# EAGLE library part 6120XX235221_612026235221 (library Eagle_WR-BHD (rev21a))
WR-BHD 2.54 mm Male Angled Box Header High Temperature KIND PROPERTIES: Pitch 2.54 mm Gender:Male MATERIAL PROPERTIES: Insulator Material:PA6T Insulator Flammability Rating UL94 V-0 Insulator Color:Black Contact Material :Copper Alloy Contact Plating :Gold Contact Type: Stamped GENERAL INFORMATION: Operating Temperature:-40 °C up to +125 °C Compliance:RoHS Working Voltage: 250 V (AC) Withstanding Voltage:500 V (AC) Contact Resistance: 20 mΩ Insulation Resistance:1000 MΩ PACKAGING PROPERTIES Packaging :Tray <https://www.we-online.de/katalog/media/o32907v209%20Family_WR-BHD_6120xx235221.jpg> Details see: https://www.we-online.de/katalog/en/em/BHD_2_54_MALE_ANGLED_BOX_HEADER_HIGH_TEMPERATURE_6120XX235221 Updated by Yingchun,Shan 2019-10-30 2019 (C) Würth Elektronik
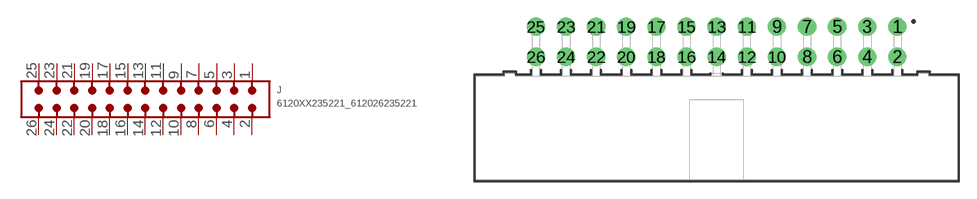
[diagram p142: symbol with the pads of 612026235221; footprint 612026235221]

Designator prefix J

## 6120XX235221_612026235221 (CONTACT-RESISTANCE: 20mOhm; DATASHEET-URL: https://www.we-online.com/catalog/datasheet/612026235221.pdf; GENDER: Male; IR: 3A; L: 40.62mm; MOUNT: THT; PACKAGING: Tray; PART-NUMBER: 612026235221; PINS: 26; PITCH: 2.54mm; TYPE: Angled; VALUE: 612026235221; WORKING-VOLTAGE: 250V(AC))  [612026235221]
1  1  pas
2  2  pas
3  3  pas
4  4  pas
5  5  pas
6  6  pas
7  7  pas
8  8  pas
9  9  pas
10  10  pas
11  11  pas
12  12  pas
13  13  pas
14  14  pas
15  15  pas
16  16  pas
17  17  pas
18  18  pas
19  19  pas
20  20  pas
21  21  pas
22  22  pas
23  23  pas
24  24  pas
25  25  pas
26  26  pas

## Footprint 612026235221 (pad centres in mm)
WR-BHD 2.54 mm Male Angled Box Header High Temperature,26 Pins
drill 1.02: 1 15.24,8.54; 2 15.24,6; 3 12.7,8.54; 4 12.7,6; 5 10.16,8.54; 6 10.16,6; 7 7.62,8.54; 8 7.62,6; 9 5.08,8.54; 10 5.08,6; 11 2.54,8.54; 12 2.54,6; 13 0,8.54; 14 0,6; 15 -2.54,8.54; 16 -2.54,6; 17 -5.08,8.54; 18 -5.08,6; 19 -7.62,8.54; 20 -7.62,6; 21 -10.16,8.54; 22 -10.16,6; 23 -12.7,8.54; 24 -12.7,6; 25 -15.24,8.54; 26 -15.24,6